# Altium schematic symbol library SCH - DRIVER - LED - TI TPS92662A-Q1PHP.SchLib: 1 symbol
Pins are listed as number, name and electrical type; pins without a type are passive.

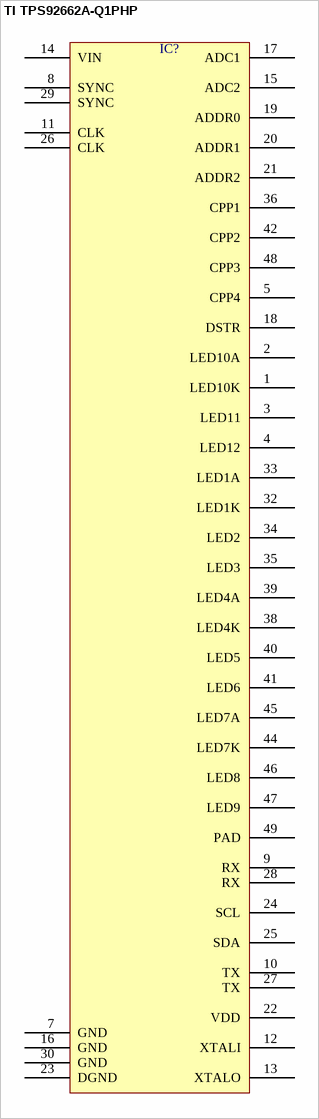
[diagram p0: symbol TI TPS92662A-Q1PHP]

## TI TPS92662A-Q1PHP
designator IC?  (value not drawn)
pins: 1 LED10K, 2 LED10A, 3 LED11, 4 LED12, 5 CPP4, 7 GND, 8 SYNC, 9 RX, 10 TX, 11 CLK, 12 XTALI, 13 XTALO, 14 VIN, 15 ADC2, 16 GND, 17 ADC1, 18 DSTR, 19 ADDR0, 20 ADDR1, 21 ADDR2, 22 VDD, 23 DGND, 24 SCL, 25 SDA, 26 CLK, 27 TX, 28 RX, 29 SYNC, 30 GND, 32 LED1K, 33 LED1A, 34 LED2, 35 LED3, 36 CPP1, 38 LED4K, 39 LED4A, 40 LED5, 41 LED6, 42 CPP2, 44 LED7K, 45 LED7A, 46 LED8, 47 LED9, 48 CPP3, 49 PAD